# Altium footprint library Bad-Fox.PcbLib: 9 footprints
Each footprint in its own frame and in the unit in brackets; x right, y up, seen from the top. Pads: shape width x height; smd on the part's side, far side on the other; paste and mask are expansions set on the pad; w line width, h text height; cw(c..) or ccw(c..) is an arc to the next point about the centre after c.
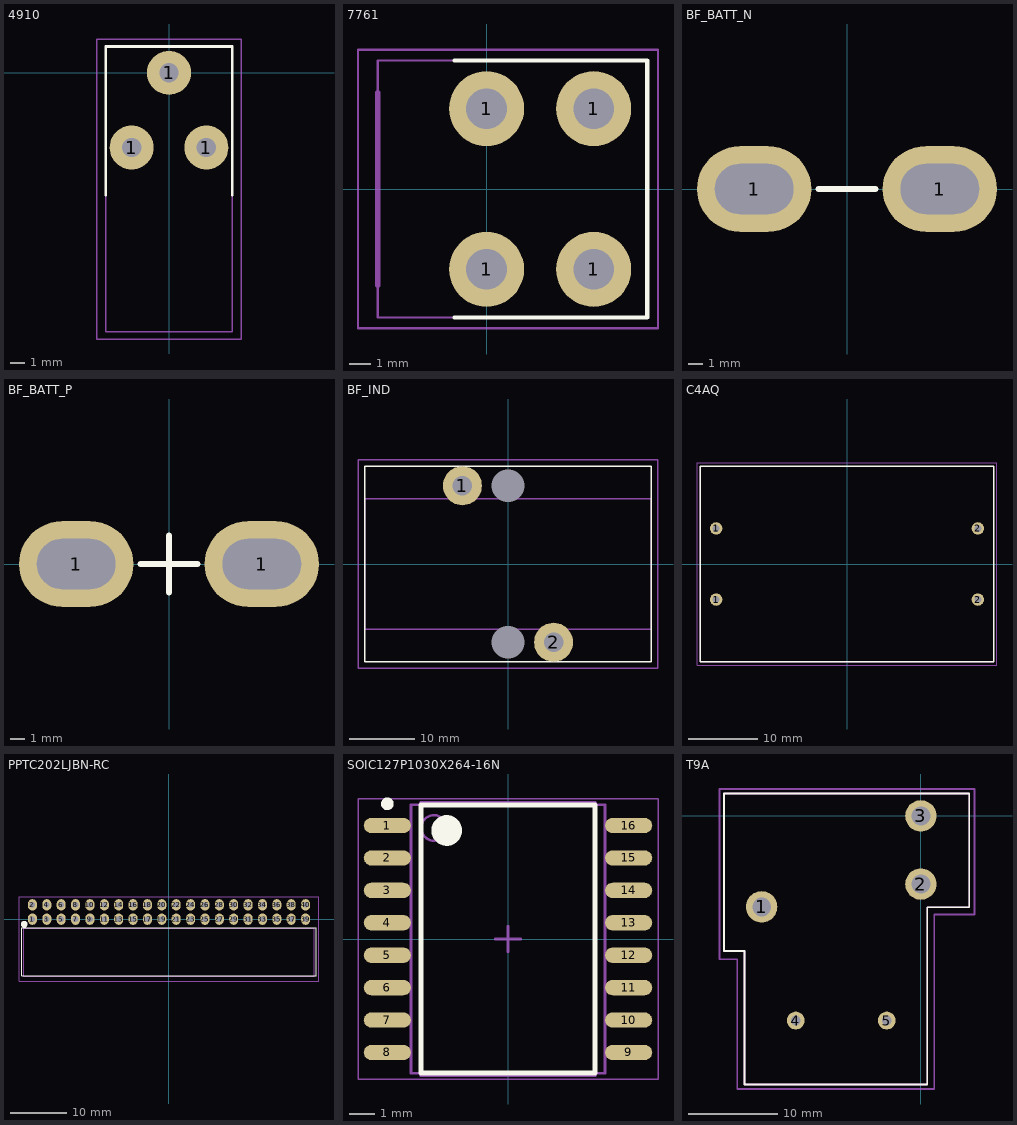
[diagram p0: the footprints below, top view; thin cyan lines are the x and y axes]

## 4910 [mm] "Quick connect spade, RA TH"
pads (3):
  round 3 hole 1.32: 1(-2.54,-5.08) 1(0,0) 1(2.54,-5.08)
Top Overlay:
  lines w0.2: -4.3,-8.3 -4.3,1.8 4.3,1.8 4.3,-8.3
Mechanical 11:
  lines w0.1: -4.3,-17.6 -4.3,1.8 4.3,1.8 4.3,-17.6 -4.3,-17.6
Mechanical 15:
  lines w0.1: -4.9,-18.1 -4.9,2.3 4.9,2.3 4.9,-18.1 -4.9,-18.1
3D body: height 0.8, standoff 0, extent -4,-17.6 4,0.5

## 7761 [mm] "Keystone Electronics M3 Screw Terminal RA"
pads (4):
  round 3.5 hole 1.9: 1(0,-3.75) 1(0,3.75) 1(5,-3.75) 1(5,3.75)
Top Overlay:
  lines w0.2: -1.5,-6 7.5,-6 7.5,6 -1.5,6
Mechanical 11:
  lines w0.1: -5.08,-6 -5.08,6 7.5,6 7.5,-6 -5.08,-6
Mechanical 13:
  lines w0.254: -5.08,-4.5 -5.08,4.5
Mechanical 15:
  lines w0.1: -6,-6.5 -6,6.5 8,6.5 8,-6.5 -6,-6.5
3D body "keystone-PN7761-2.STEP": height 7.94, standoff -5.07, extent -19.677,-4.685 6.52,4.729

## BF_BATT_N [mm]
pads (2):
  oval 8x6 hole 3.5 slot 5.5 at 0 deg: 1(-6.5,0) 1(6.5,0)
Top Overlay:
  lines w0.4: -2,0 2,0

## BF_BATT_P [mm]
pads (2):
  oval 8x6 hole 3.5 slot 5.5 at 0 deg: 1(-6.5,0) 1(6.5,0)
Top Overlay:
  lines w0.4: -2,0 2,0 ; 0,-2 0,2

## BF_IND [mm]
pads (4):
  round 6 hole 3: 1(-7,12) 2(7,-12)
  round 0 hole 5: ""(0,-12) ""(0,12)
Top Overlay:
  lines w0.2: -22,-15 22,-15 22,15 -22,15 -22,-15
Mechanical 11:
  lines w0.2: -22,-10 -22,10 22,10 22,-10 -22,-10
  text ".Designator" at -6,-1 h3
Mechanical 15:
  lines w0.2: -23,-16 23,-16 23,16 -23,16 -23,-16
3D body: height 44, standoff 0, extent -21.994,-10 21.994,10

## C4AQ [mil] "Kemet C4AQ Series film capacitor"
pads (4):
  round 70 hole 40: 1(-738.19,-200.79) 1(-738.19,200.79) 2(738.19,-200.79) 2(738.19,200.79)
Top Overlay:
  lines w7.87: -826.77,-551.18 826.77,-551.18 826.77,551.18 -826.77,551.18 -826.77,-551.18
Mechanical 11:
  lines w3.94: -826.77,-551.18 -826.77,551.18 826.77,551.18 826.77,-551.18 -826.77,-551.18
Mechanical 15:
  lines w3.94: -846.46,-570.87 -846.46,570.87 846.46,570.87 846.46,-570.87 -846.46,-570.87
3D body: height 1456.69, standoff 0, extent -826.77,-551.18 826.77,551.18

## PPTC202LJBN-RC [mm]
pads (40):
  oval 1.6x2 hole 1: 1(-24.13,0) 2(-24.13,2.54) 3(-21.59,0) 4(-21.59,2.54) 5(-19.05,0) 6(-19.05,2.54) 7(-16.51,0) 8(-16.51,2.54) 9(-13.97,0) 10(-13.97,2.54) 11(-11.43,0) 12(-11.43,2.54) 13(-8.89,0) 14(-8.89,2.54) 15(-6.35,0) 16(-6.35,2.54) 17(-3.81,0) 18(-3.81,2.54) 19(-1.27,0) 20(-1.27,2.54) 21(1.27,0) 22(1.27,2.54) 23(3.81,0) 24(3.81,2.54) 25(6.35,0) 26(6.35,2.54) 27(8.89,0) 28(8.89,2.54) 29(11.43,0) 30(11.43,2.54) 31(13.97,0) 32(13.97,2.54) 33(16.51,0) 34(16.51,2.54) 35(19.05,0) 36(19.05,2.54) 37(21.59,0) 38(21.59,2.54) 39(24.13,0) 40(24.13,2.54)
Top Overlay:
  circle w0.6: c-25.586,-0.888 r0.3
  lines w0.2: -26,-10 26,-10 26,-1.5 -26,-1.5 -26,-10
Mechanical 11:
  lines w0.1: -25.7,-10.1 -25.7,-1.6 25.7,-1.6 25.7,-10.1 -25.7,-10.1
  text ".Designator" at -7.874,-6.357 h3
Mechanical 15:
  lines w0.1: -26.5,-11 -26.5,4 26.5,4 26.5,-11 -26.5,-11
3D body: height 5.08, standoff 0, extent -25.65,-10.1 25.65,-1.6

## SOIC127P1030X264-16N [mm] "SOIC, 16-Leads, Body 10.29x7.50mm, Pitch 1.27mm, IPC Medium Density"
height 2.64
pads (16):
  oval 1.85x0.6 smd: 1(-4.725,4.445) 2(-4.725,3.175) 3(-4.725,1.905) 4(-4.725,0.635) 5(-4.725,-0.635) 6(-4.725,-1.905) 7(-4.725,-3.175) 8(-4.725,-4.445) 9(4.725,-4.445) 10(4.725,-3.175) 11(4.725,-1.905) 12(4.725,-0.635) 13(4.725,0.635) 14(4.725,1.905) 15(4.725,3.175) 16(4.725,4.445)
Top Overlay:
  circle w0.6: c-2.4,4.25 r0.3
  circle w0.25: c-4.725,5.295 r0.125
  lines w0.2: -3.4,-5.25 3.4,-5.25 3.4,5.25 -3.4,5.25 -3.4,-5.25
Mechanical 11:
  lines w0.127: -3.429,-5.334 3.429,-5.334 3.429,5.334 -3.429,5.334 -3.429,-5.334
  text ".Designator" at -0.7,2.1 h1
Mechanical 13:
  circle w0.1: c-2.9,4.35 r0.5
  lines w0.1: -3.8,-5.25 3.8,-5.25 3.8,5.25 -3.8,5.25 -3.8,-5.25
Mechanical 15:
  lines w0.05: -5.875,-5.5 5.875,-5.5 5.875,5.5 -5.875,5.5 -5.875,-5.5
  lines w0.1: -0.5,0 0.5,0 ; 0,-0.5 0,0.5
3D body: height 2.64, standoff 0.3, extent -3.8,-5.25 3.8,5.25

## T9A [mm] "T9A Relay"
pads (5):
  round 3.5 hole 2.1: 1(-17.78,-10.16) 2(0,-7.62) 3(0,0)
  round 2 hole 1.1: 4(-13.97,-22.86) 5(-3.81,-22.86)
Top Overlay:
  lines w0.2: -22,-15.1 -22,2.5 5.4,2.5 5.4,-10.2 0.7,-10.2 0.7,-30 -19.7,-30 -19.7,-15.1 -22,-15.1
Mechanical 11:
  lines w0.2: -22,-15.1 -19.7,-15.1 -19.7,-30 0.7,-30 0.7,-10.2 5.4,-10.2 5.4,2.5 -22,2.5 -22,-15.1
  text ".Designator" at -10,-3.5 h3
Mechanical 15:
  lines w0.2: -22.5,-16 -20.5,-16 -20.5,-30.5 1.5,-30.5 1.5,-11 6,-11 6,3 -22.5,3 -22.5,-16
3D body "c-3-1393210-9-j-3d.stp": height 20.45, standoff -3.3, extent -22.016,-30.019 5.416,2.5